# Altium schematic symbol library SGM2212-3.3XKC3G_TR.SchLib: 1 symbol
Pins are listed as number, name and electrical type; pins without a type are passive.

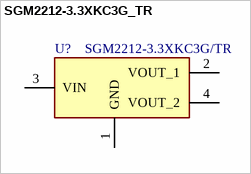
[diagram p0: symbol SGM2212-3.3XKC3G_TR]

## SGM2212-3.3XKC3G_TR
designator U?, comment SGM2212-3.3XKC3G/TR
SOT-223-3; Manufacturer_Name: Silicon Labs; Geometry.Height: 1.8mm; Manufacturer_Part_Number: SGM2212-3.3XKC3G/TR; Mouser Part Number: *; Mouser Price/Stock: *; Arrow Part Number: *; Arrow Price/Stock: *; Datasheet Link: http://cn.sg-micro.com/uploads/soft/20220506/1651835177.pdf
footprint SOT230P700X180-4N
pins: 1 GND, 2 VOUT_1, 3 VIN, 4 VOUT_2